# EAGLE library part 615016137621 (library 615008185221_Eagle_WR-MJ_rev20b)
WR-MJ Modular Jack Horizontal Shielded Dual Port 8P8C Tab Down KIND PROPERTIES Quality Class:500 Mating cycles General Information Operating Temperature:-40 up to +85 °C Compliance:RoHS Electrical Properties IR1:1.5A Working Voltage: 120V (AC) Withstanding Voltage:1000V (AC) Contact Resistance:20mΩ RISO:500 MΩ Material Properties Insulator MateriaL:PBT Insulator Flammability Rating:UL94 V-0 Color:Black Contact Material:Copper Alloy Contact Plating:Selective Gold Contact Type:Stamped Shielding Material:Bronze Shielding Plating:Nickel Packaging Properties Packaging:Tray <https://www.we-online.com/catalog/media/o33140v209%20Family_WR-MJ_615016137621.jpg> Details see: https://www.we-online.com/catalog/en/MJ_HORIZONTAL_SHIELDED_DUAL_PORT_8P8C_TAB_DOWN/ Updated by Yingchun,Shan 2020-01-02 2020(C) Würth Elektronik
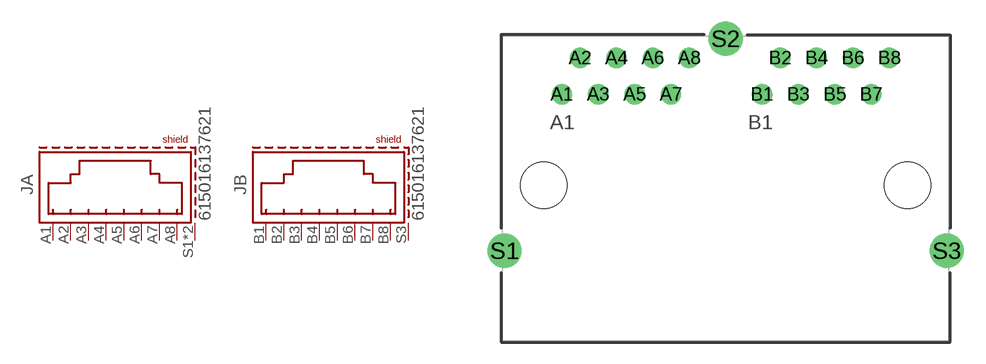
[diagram p11: symbol with the pads of 615016137621; footprint 615016137621]

Designator prefix J; gates A=8P8C_S B=8P8C_S

## 615016137621 (DATASHEET-URL: https://www.we-online.com/catalog/datasheet/615016137621.pdf; MOUNT: THT; PART-NUMBER: 615016137621; TYPE: Horizontal; VALUE: 615016137621; XPXC: 8P8C)  [615016137621]
A1  A:8  pas
A2  A:7  pas
A3  A:6  pas
A4  A:5  pas
A5  A:4  pas
A6  A:3  pas
A7  A:2  pas
A8  A:1  pas
B1  B:8  pas
B2  B:7  pas
B3  B:6  pas
B4  B:5  pas
B5  B:4  pas
B6  B:3  pas
B7  B:2  pas
B8  B:1  pas
S1  A:SHIELD  pas
S2  A:SHIELD  pas
S3  B:SHIELD  pas

## Footprint 615016137621 (pad centres in mm)
WR-MJ Horizontal Shielded Dual Port 8P8C Modular Jack Tab Down, 16 Pins
drill 0.9: A1 -11.43,6.565; A2 -10.16,9.105; A3 -8.89,6.565; A4 -7.62,9.105; A5 -6.35,6.565; A6 -5.08,9.105; A7 -3.81,6.565; A8 -2.54,9.105; B1 2.54,6.565; B2 3.81,9.105; B3 5.08,6.565; B4 6.35,9.105; B5 7.62,6.565; B6 8.89,9.105; B7 10.16,6.565; B8 11.43,9.105
drill 1.6: S1 -15.435,-4.355; S2 0,10.455; S3 15.435,-4.355
hole 3.25 at -12.7,0.215
hole 3.25 at 12.7,0.215